# EAGLE library part AD7908 (library ad9708)
AD9708 8-Bit DAC with current output http://www.analog.com/static/imported-files/data_sheets/AD9708.pdf
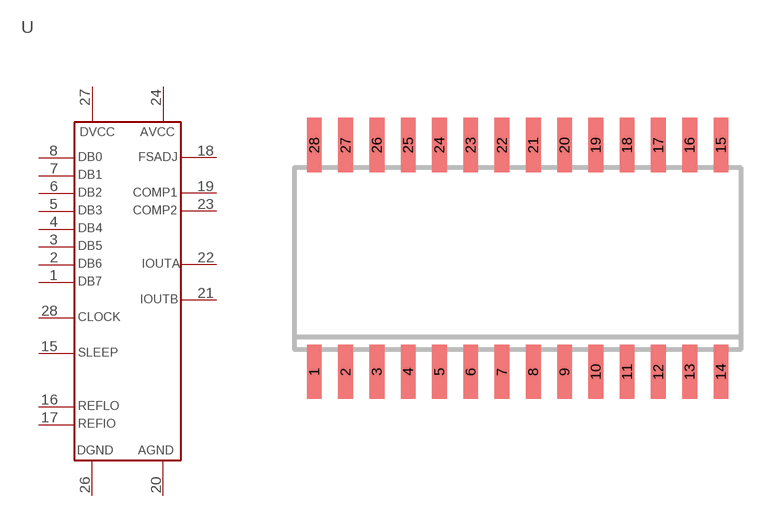
[diagram p0: symbol with the pads of SO28W; footprint SO28W]

Designator prefix -

## AD7908  [SO28W]
1  DB7  in
2  DB6  in
3  DB5  in
4  DB4  in
5  DB3  in
6  DB2  in
7  DB1  in
8  DB0  in
15  SLEEP  in
16  REFLO  in
17  REFIO
18  FSADJ  in
19  COMP1  in
20  AGND  sup
21  IOUTB  out
22  IOUTA  out
23  COMP2  in
24  AVCC  sup
26  DGND  sup
27  DVCC  sup
28  CLOCK  in

## Footprint SO28W (pad centres in mm)
SMALL OUTLINE INTEGRATED CIRCUIT wide body 7.5 mm/JEDEC MO-119AB
smd 0.6 x 2.2: 1 -8.255,-4.6; 2 -6.985,-4.6; 3 -5.715,-4.6; 4 -4.445,-4.6; 5 -3.175,-4.6; 6 -1.905,-4.6; 7 -0.635,-4.6; 8 0.635,-4.6; 9 1.905,-4.6; 10 3.175,-4.6; 11 4.445,-4.6; 12 5.715,-4.6; 13 6.985,-4.6; 14 8.255,-4.6; 15 8.255,4.6; 16 6.985,4.6; 17 5.715,4.6; 18 4.445,4.6; 19 3.175,4.6; 20 1.905,4.6; 21 0.635,4.6; 22 -0.635,4.6; 23 -1.905,4.6; 24 -3.175,4.6; 25 -4.445,4.6; 26 -5.715,4.6; 27 -6.985,4.6; 28 -8.255,4.6